# Altium footprint library SENSIRION_Footprints.PcbLib: 1 footprints
Each footprint in its own frame and in the unit in brackets; x right, y up, seen from the top. Pads: shape width x height; smd on the part's side, far side on the other; paste and mask are expansions set on the pad; w line width, h text height; cw(c..) or ccw(c..) is an arc to the next point about the centre after c.
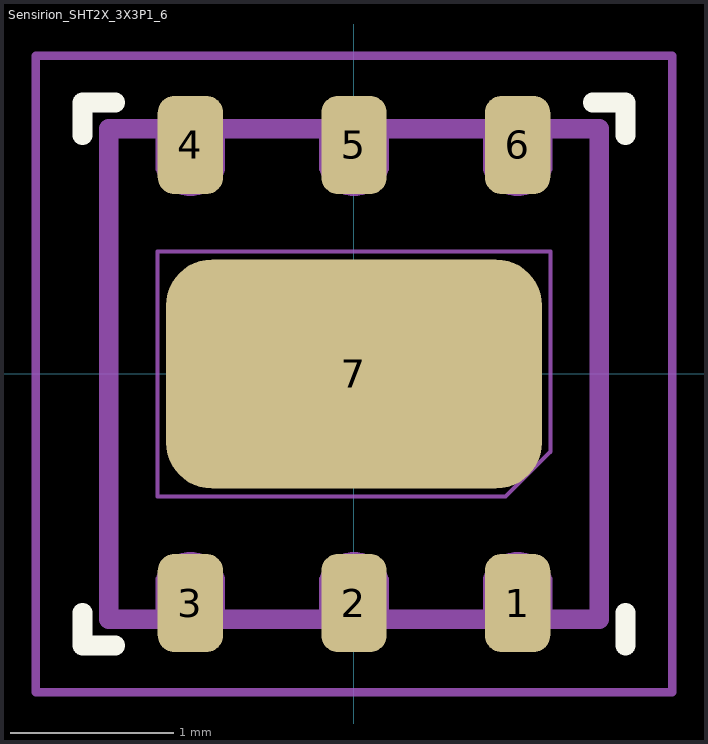
[diagram p0: the footprint, top view; thin cyan lines are the x and y axes]

## Sensirion_SHT2X_3X3P1_6 [mm]
height 1.1
pads (7):
  rrect51% 0.4x0.6 smd: 1(1,-1.4) 2(0,-1.4) 3(-1,-1.4) 4(-1,1.4) 5(0,1.4) 6(1,1.4)
  rrect40% 2.3x1.4 smd: 7(0,0)
Top Overlay:
  lines w0.12: -1.66,-1.46 -1.66,-1.66 -1.46,-1.66 ; -1.66,1.46 -1.66,1.66 -1.46,1.66 ; 1.46,1.66 1.66,1.66 1.66,1.46 ; 1.66,-1.66 1.66,-1.46
Mechanical 11:
  lines w0.12: -1.5,-1.5 1.5,-1.5 1.5,1.5 -1.5,1.5 -1.5,-1.5
Mechanical 12:
  lines w0.025: -1.2,-1.5 -1.2,-1.25 cw(c-1,-1.308) -0.8,-1.25 -0.8,-1.5 ; -1.2,1.5 -1.2,1.25 ccw(c-1,1.308) -0.8,1.25 -0.8,1.5 ; -0.2,-1.5 -0.2,-1.25 cw(c0,-1.308) 0.2,-1.25 0.2,-1.5 ; -0.2,1.5 -0.2,1.25 ccw(c0,1.308) 0.2,1.25 0.2,1.5 ; 0.8,-1.5 0.8,-1.25 cw(c1,-1.308) 1.2,-1.25 1.2,-1.5 ; 0.8,1.5 0.8,1.25 ccw(c1,1.308) 1.2,1.25 1.2,1.5 ; -1.5,-1.5 1.5,-1.5 1.5,1.5 -1.5,1.5 -1.5,-1.5 ; -1.2,-0.75 -1.2,0.75 1.2,0.75 1.2,-0.475 0.925,-0.75 -1.2,-0.75
Mechanical 15:
  circle w0.05: c0,0 r0.25
  lines w0.05: -0.35,0 0.35,0 ; 0,-0.35 0,0.35 ; -1.945,-1.945 1.945,-1.945 1.945,1.945 -1.945,1.945 -1.945,-1.945
Mechanical 16:
  text ".Designator" at 0,0 h1.2